# Altium footprint library g-HEADER_6x1M2.5P.PcbLib: 1 footprints
Each footprint in its own frame and in the unit in brackets; x right, y up, seen from the top. Pads: shape width x height; smd on the part's side, far side on the other; paste and mask are expansions set on the pad; w line width, h text height; cw(c..) or ccw(c..) is an arc to the next point about the centre after c.
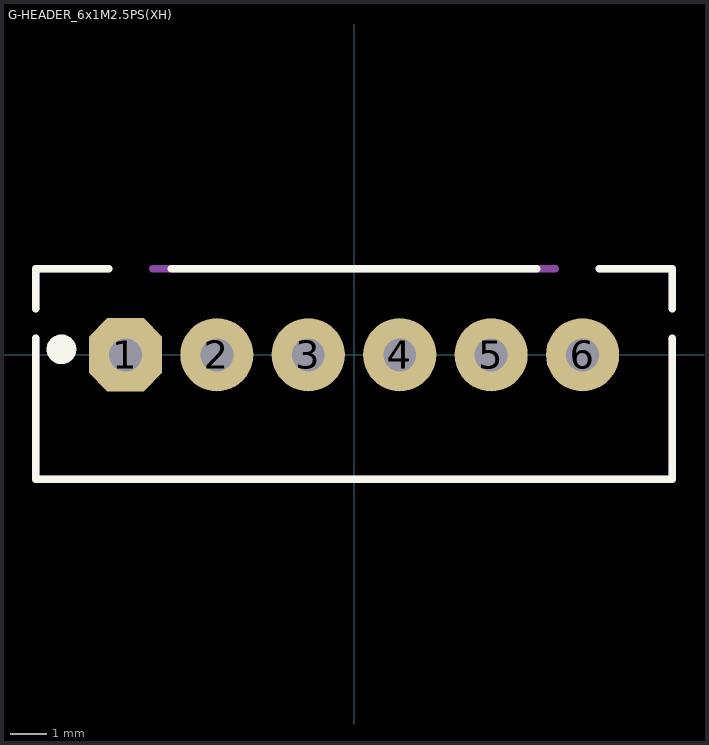
[diagram p0: the footprint, top view; thin cyan lines are the x and y axes]

## G-HEADER_6x1M2.5PS(XH) [mm] "CONN HEADER XH TOP 6POS 2.5MM SHROUDED"
height 7
pads (6):
  oct 2x2 hole 0.9: 1(-6.25,0)
  round 2 hole 0.9: 2(-3.75,0) 3(-1.25,0) 4(1.25,0) 5(3.75,0) 6(6.25,0)
Top Overlay:
  circle w0.4: c-8,0.15 r0.206
  lines w0.2: -8.7,0.45 -8.7,-3.4 8.7,-3.4 8.7,0.45 ; -8.7,1.25 -8.7,2.35 -6.7,2.35 ; -5,2.35 5,2.35 ; 6.7,2.35 8.7,2.35 8.7,1.25
Mechanical 1:
  lines w0.2: -8.7,0.45 -8.7,-3.4 8.7,-3.4 8.7,0.45 ; -8.7,1.25 -8.7,2.35 -6.7,2.35 ; -5.5,2.35 5.5,2.35 ; 6.7,2.35 8.7,2.35 8.7,1.25
3D body: height 7, standoff -3.4, extent -8.7,-3.4 8.7,2.35